# Altium footprint library PcbLib1.PcbLib: 264 footprints (part 4 of 17)
Each footprint in its own frame and in the unit in brackets; x right, y up, seen from the top. Pads: shape width x height; smd on the part's side, far side on the other; paste and mask are expansions set on the pad; w line width, h text height; cw(c..) or ccw(c..) is an arc to the next point about the centre after c.
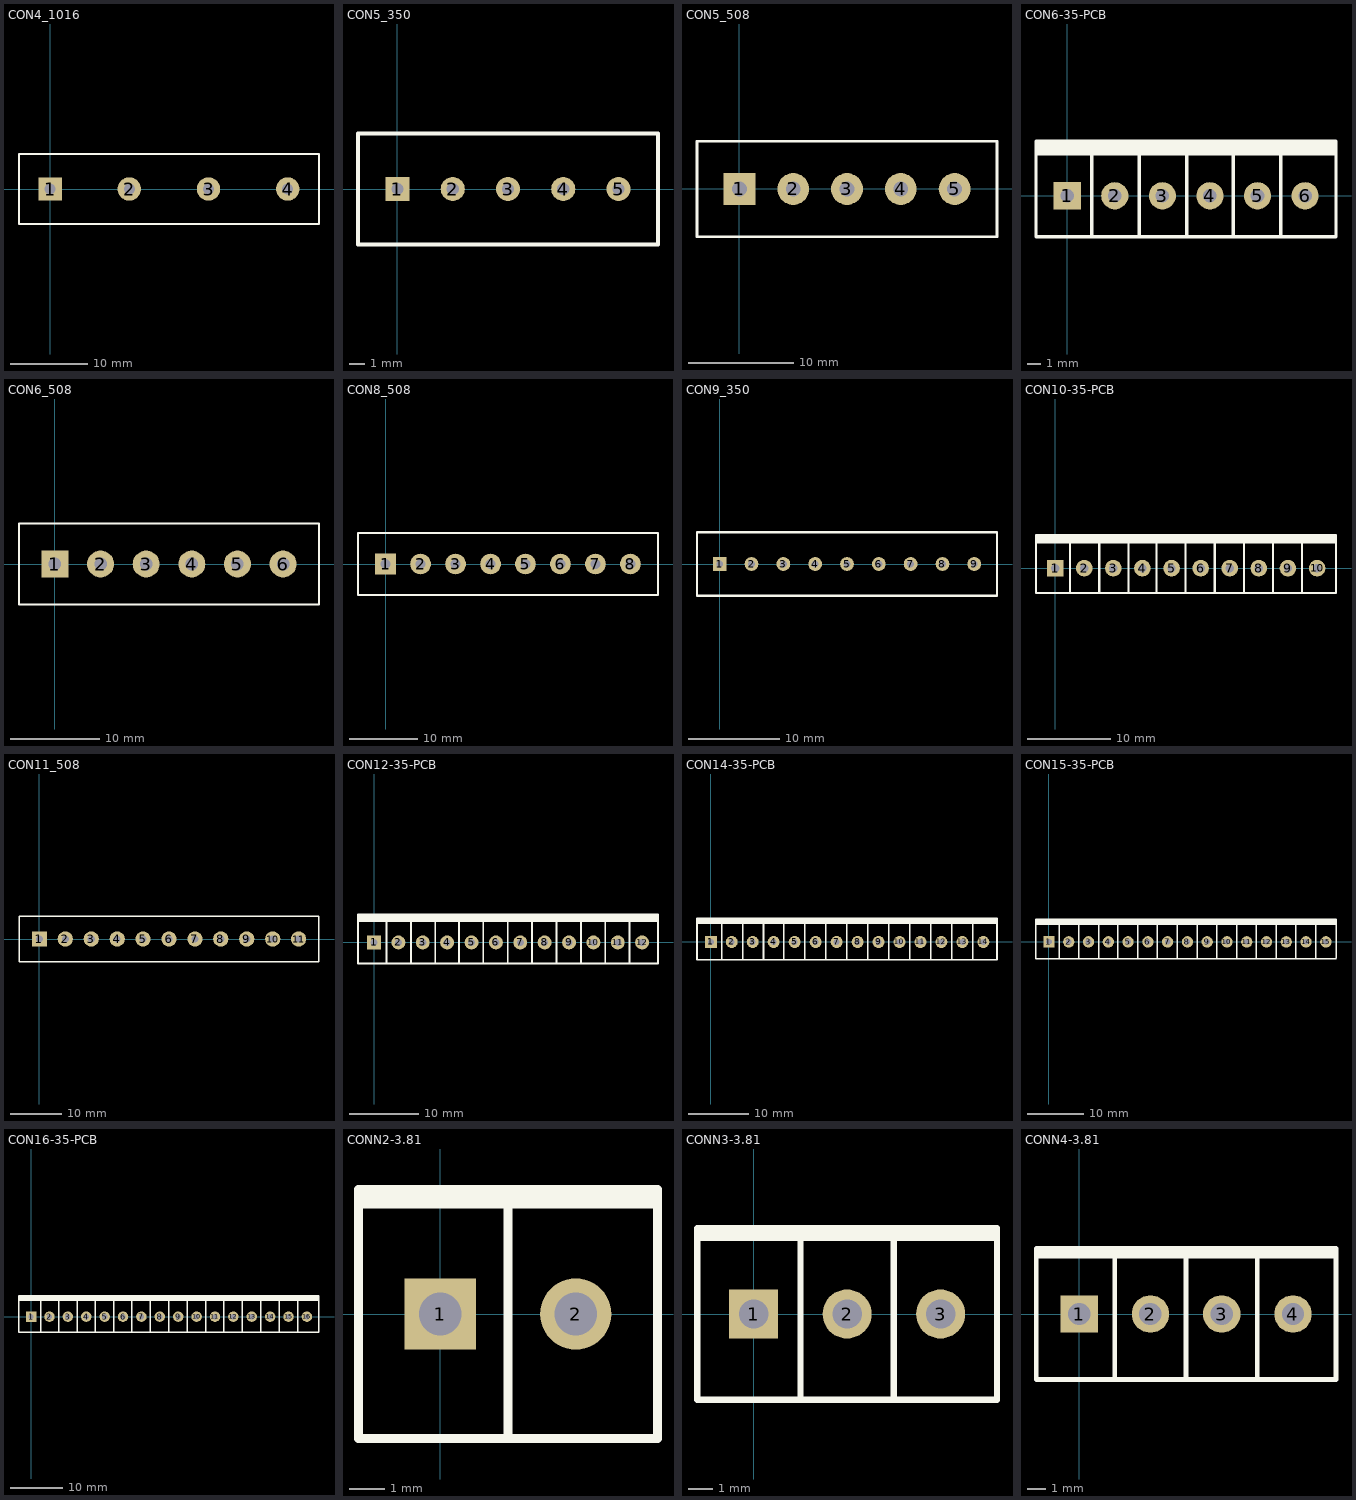
[diagram p3: the footprints below, top view; thin cyan lines are the x and y axes]

## CON4_1016 [mm]
pads (4):
  rect 3x3 hole 1.4: 1(0,0)
  round 3 hole 1.4: 2(10.16,0) 3(20.32,0) 4(30.48,0)
Top Overlay:
  lines w0.254: -4,-4.5 34.5,-4.5 34.5,4.5 -4,4.5 -4,-4.5

## CON5_350 [mil]
pads (5):
  rect 60x60 hole 30: 1(0,0)
  round 60 hole 30: 2(137.8,0) 3(275.59,0) 4(413.39,0) 5(551.18,0)
Top Overlay:
  lines w10: -98.43,-137.8 649.61,-137.8 649.61,137.8 -98.43,137.8 -98.43,-137.8

## CON5_508 [mm]
pads (5):
  rect 3x3 hole 1.4: 1(0,0)
  round 3 hole 1.4: 2(5.08,0) 3(10.16,0) 4(15.24,0) 5(20.32,0)
Top Overlay:
  lines w0.254: -4,-4.5 24.32,-4.5 24.32,4.5 -4,4.5 -4,-4.5

## CON6-35-PCB [mm]
pads (6):
  rect 2x2 hole 1: 1(0,0)
  round 2 hole 1: 2(3.5,0) 3(7,0) 4(10.5,0) 5(14,0) 6(17.5,0)
Top Overlay:
  rectangle: -2.3,3.1 19.775,3.975
  lines w0.254: 1.8,-3 1.8,4 ; 5.3,-3 5.3,4 ; 6.7,3.1 5.3,3.1 3.9,3.1 -2.3,3.1 19.775,3.1 ; 7.4,3.1 8.8,3.1 10.3,3.1 ; 8.8,-3 8.8,0 8.8,4 ; 11.2,3.1 12.8,3.1 ; 12.2,-3 12.2,0 12.2,4 ; 12.8,-3 9.3,-3 5.8,-3 -2.3,-3 ; 12.8,4 9.3,4 5.8,4 -2.3,4 ; 15.7,-3 15.7,0 15.7,4 ; 19.775,3.975 19.775,-3 -2.3,-3 ; 19.775,4 -2.3,4 ; -2.3,-3 -2.3,4

## CON6_508 [mm]
pads (6):
  rect 3x3 hole 1.4: 1(0,0)
  round 3 hole 1.4: 2(5.08,0) 3(10.16,0) 4(15.24,0) 5(20.32,0) 6(25.4,0)
Top Overlay:
  lines w0.254: -4,-4.5 -4,4.5 29.4,4.5 29.4,-4.5 -4,-4.5

## CON8_508 [mm]
pads (8):
  rect 3x3 hole 1.4: 1(0,0)
  round 3 hole 1.4: 2(5.08,0) 3(10.16,0) 4(15.24,0) 5(20.32,0) 6(25.4,0) 7(30.48,0) 8(35.56,0)
Top Overlay:
  lines w0.254: -4,-4.5 -4,4.5 39.56,4.5 39.56,-4.5 -4,-4.5

## CON9_350 [mil]
pads (9):
  rect 60x60 hole 30: 1(0,0)
  round 60 hole 30: 2(137.8,0) 3(275.59,0) 4(413.39,0) 5(551.18,0) 6(688.98,0) 7(826.77,0) 8(964.57,0) 9(1102.36,0)
Top Overlay:
  lines w10: -98.43,-137.8 -98.43,137.8 1200.79,137.8 1200.79,-137.8 -98.43,-137.8

## CON10-35-PCB [mm]
pads (10):
  rect 2x2 hole 1: 1(0,0)
  round 2 hole 1: 2(3.5,0) 3(7,0) 4(10.5,0) 5(14,0) 6(17.5,0) 7(21,0) 8(24.5,0) 9(28,0) 10(31.5,0)
Top Overlay:
  rectangle: -2.3,3.075 33.775,3.975
  lines w0.254: 1.8,-3 1.8,4 ; 5.3,-3 5.3,4 ; 6.7,3.1 5.3,3.1 3.9,3.1 -2.3,3.1 33.75,3.1 ; 7.4,3.1 8.8,3.1 10.3,3.1 ; 8.8,-3 8.8,0 8.8,4 ; 11.2,3.1 12.8,3.1 ; 12.2,-3 12.2,0 12.2,4 ; 12.8,-3 9.3,-3 5.8,-3 -2.3,-3 ; 15.7,-3 15.7,0 15.7,4 ; 19.2,-3 19.2,0 19.2,4 ; 22.7,-2.9 22.7,0 22.7,4 ; 26.2,-3 26.2,0 26.2,4 ; 29.7,-3 29.7,0 29.7,4 ; 33.75,4 12.8,4 9.3,4 5.8,4 -2.3,4 -2.3,-3 ; 33.775,3.975 33.775,-3 -2.3,-3

## CON11_508 [mm]
pads (11):
  rect 3x3 hole 1.4: 1(0,0)
  round 3 hole 1.4: 2(5.08,0) 3(10.16,0) 4(15.24,0) 5(20.32,0) 6(25.4,0) 7(30.48,0) 8(35.56,0) 9(40.64,0) 10(45.72,0) 11(50.8,0)
Top Overlay:
  lines w0.254: -4,-4.5 -4,4.5 54.8,4.5 54.8,-4.5 -4,-4.5

## CON12-35-PCB [mm]
pads (12):
  rect 2x2 hole 1: 1(0,0)
  round 2 hole 1: 2(3.5,0) 3(7,0) 4(10.5,0) 5(14,0) 6(17.5,0) 7(21,0) 8(24.5,0) 9(28,0) 10(31.5,0) 11(35,0) 12(38.5,0)
Top Overlay:
  rectangle: -2.3,3.075 40.775,4
  lines w0.254: 1.8,-3 1.8,4 ; 5.3,-3 5.3,4 ; 6.7,3.1 5.3,3.1 3.9,3.1 -2.3,3.1 40.775,3.1 ; 7.4,3.1 8.8,3.1 10.3,3.1 ; 8.8,-3 8.8,0 8.8,4 ; 11.2,3.1 12.8,3.1 ; 12.2,-3 12.2,0 12.2,4 ; 12.8,-3 9.3,-3 5.8,-3 -2.3,-3 ; 12.8,4 9.3,4 5.8,4 -2.3,4 ; 15.7,-3 15.7,0 15.7,4 ; 19.2,-3 19.2,0 19.2,4 ; 22.7,-2.9 22.7,0 22.7,4 ; 26.2,-3 26.2,0 26.2,4 ; 29.7,-3 29.7,0 29.7,4 ; 33.2,-3 33.2,0 33.2,4 ; 36.7,-3 36.7,0 36.7,4 ; -2.3,-3 40.775,-3 40.775,4 -2.3,4 ; -2.3,-3 -2.3,4

## CON14-35-PCB [mm]
pads (14):
  rect 2x2 hole 1: 1(0,0)
  round 2 hole 1: 2(3.5,0) 3(7,0) 4(10.5,0) 5(14,0) 6(17.5,0) 7(21,0) 8(24.5,0) 9(28,0) 10(31.5,0) 11(35,0) 12(38.5,0) 13(42,0) 14(45.5,0)
Top Overlay:
  rectangle: -2.3,3.1 47.775,4
  lines w0.254: 1.8,-3 1.8,4 ; 5.3,-3 5.3,4 ; 6.7,3.1 5.3,3.1 3.9,3.1 -2.3,3.1 47.775,3.1 ; 7.4,3.1 8.8,3.1 10.3,3.1 ; 8.8,-3 8.8,0 8.8,4 ; 11.2,3.1 12.8,3.1 ; 12.2,-3 12.2,0 12.2,4 ; 12.8,-3 9.3,-3 5.8,-3 -2.3,-3 ; 12.8,4 9.3,4 5.8,4 -2.3,4 ; 15.7,-3 15.7,0 15.7,4 ; 19.2,-3 19.2,0 19.2,4 ; 22.7,-2.9 22.7,0 22.7,4 ; 26.2,-3 26.2,0 26.2,4 ; 29.7,-3 29.7,0 29.7,4 ; 33.2,-3 33.2,0 33.2,4 ; 36.7,-3 36.7,0 36.7,4 ; 40.2,-3 40.2,0 40.2,4 ; 43.7,-3 43.7,0 43.7,4 ; -2.3,-3 47.775,-3 47.775,4 -2.3,4 ; -2.3,-3 -2.3,4

## CON15-35-PCB [mm]
pads (15):
  rect 2x2 hole 1: 1(0,0)
  round 2 hole 1: 2(3.5,0) 3(7,0) 4(10.5,0) 5(14,0) 6(17.5,0) 7(21,0) 8(24.5,0) 9(28,0) 10(31.5,0) 11(35,0) 12(38.5,0) 13(42,0) 14(45.5,0) 15(49,0)
Top Overlay:
  rectangle: -2.3,3.1 50.8,4
  lines w0.254: -2.3,3.1 3.9,3.1 5.3,3.1 6.7,3.1 50.8,3.1 ; 1.8,-3 1.8,4 ; 5.3,-3 5.3,4 ; 7.4,3.1 8.8,3.1 10.3,3.1 ; 8.8,-3 8.8,0 8.8,4 ; 11.2,3.1 12.8,3.1 ; 12.2,-3 12.2,0 12.2,4 ; 12.5,-3 50.8,-3 ; 12.8,-3 9.3,-3 5.8,-3 -2.3,-3 -2.3,4 5.8,4 9.3,4 12.8,4 50.8,4 50.8,0 50.8,-2.9 ; 15.7,-3 15.7,0 15.7,4 ; 19.2,-3 19.2,0 19.2,4 ; 22.7,-2.9 22.7,0 22.7,4 ; 26.2,-3 26.2,0 26.2,4 ; 29.7,-3 29.7,0 29.7,4 ; 33.2,-3 33.2,0 33.2,4 ; 36.7,-3 36.7,0 36.7,4 ; 40.2,-3 40.2,0 40.2,4 ; 43.7,-3 43.7,0 43.7,4 ; 47.2,-3 47.2,0 47.2,4

## CON16-35-PCB [mm]
pads (16):
  rect 2x2 hole 1: 1(0,0)
  round 2 hole 1: 2(3.5,0) 3(7,0) 4(10.5,0) 5(14,0) 6(17.5,0) 7(21,0) 8(24.5,0) 9(28,0) 10(31.5,0) 11(35,0) 12(38.5,0) 13(42,0) 14(45.5,0) 15(49,0) 16(52.5,0)
Top Overlay:
  rectangle: -2.3,3.1 54.8,4
  lines w0.254: -2.3,3.1 3.9,3.1 5.3,3.1 6.7,3.1 54.8,3.1 ; 1.8,-3 1.8,4 ; 5.3,-3 5.3,4 ; 7.4,3.1 8.8,3.1 10.3,3.1 ; 8.8,-3 8.8,0 8.8,4 ; 11.2,3.1 12.8,3.1 ; 12.2,-3 12.2,0 12.2,4 ; 12.5,-3 54.8,-3 54.8,4 12.8,4 9.3,4 5.8,4 -2.3,4 -2.3,-3 5.8,-3 9.3,-3 12.8,-3 ; 15.7,-3 15.7,0 15.7,4 ; 19.2,-3 19.2,0 19.2,4 ; 22.7,-2.9 22.7,0 22.7,4 ; 26.2,-3 26.2,0 26.2,4 ; 29.7,-3 29.7,0 29.7,4 ; 33.2,-3 33.2,0 33.2,4 ; 36.7,-3 36.7,0 36.7,4 ; 40.2,-3 40.2,0 40.2,4 ; 43.7,-3 43.7,0 43.7,4 ; 47.2,-3 47.2,0 47.2,4 ; 50.8,-2.9 50.8,0 50.8,4

## CONN2-3.81 [mm]
pads (2):
  rect 2x2 hole 1.2: 1(0,0)
  round 2 hole 1.2: 2(3.81,0)
Top Overlay:
  rectangle: -2.31,2.97 6.12,3.45
  lines w0.254: 1.905,-3.5 1.905,3.34 ; -2.3,-3.5 -2.3,3.5 6.11,3.5 6.11,-3.5 -2.3,-3.5

## CONN3-3.81 [mm]
pads (3):
  rect 2x2 hole 1.2: 1(0,0)
  round 2 hole 1.2: 2(3.81,0) 3(7.62,0)
Top Overlay:
  rectangle: -2.31,2.97 9.86,3.45
  lines w0.254: 1.905,-3.5 1.905,3.34 ; 5.715,-3.42 5.715,3.42 ; -2.3,-3.5 -2.3,3.5 9.92,3.5 9.92,-3.5 -2.3,-3.5

## CONN4-3.81 [mm]
pads (4):
  rect 2x2 hole 1.2: 1(0,0)
  round 2 hole 1.2: 2(3.81,0) 3(7.62,0) 4(11.43,0)
Top Overlay:
  rectangle: -2.31,2.97 13.68,3.45
  lines w0.254: 1.905,-3.5 1.905,3.34 ; 5.715,-3.42 5.715,3.42 ; 9.525,-3.5 9.525,3.5 ; 13.63,3.5 -2.3,3.5 -2.3,-3.5 13.73,-3.5 13.73,3.5